# Altium schematic symbol library Acorn.SchLib: 5 symbols
Pins are listed as number, name and electrical type; pins without a type are passive.

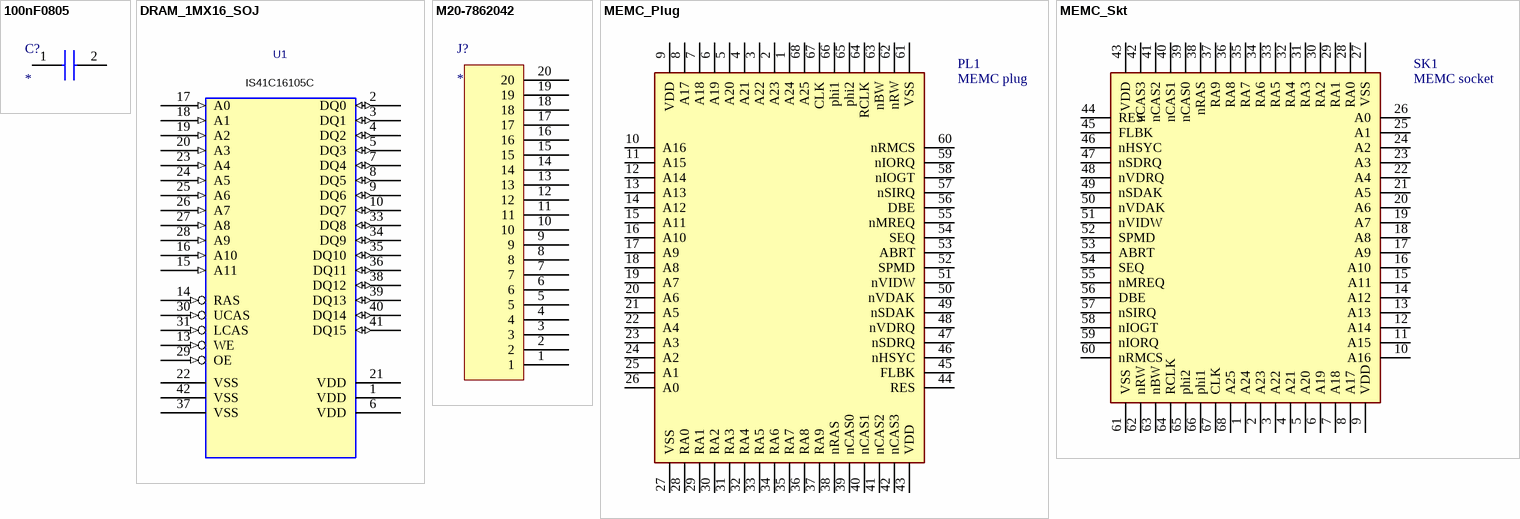
[diagram p0: symbols 100nF0805 to MEMC_Skt]

## 100nF0805
designator C?
Capacitor; Manufacturer_Name: TDK; Manufacturer_Part_Number: C2012X7R1H104K125AM; Datasheet Link: https://product.tdk.com/info/en/catalog/datasheets/mlcc_commercial_midvoltage_en.pdf; Height: 1.45mm; Mouser Part Number: 810-C2012X7R1H104KT5; Mouser Price/Stock: https://www.mouser.com/Search/Refine.aspx?Keyword=810-C2012X7R1H104KT5; Arrow Part Number: C2012X7R1H104K125AM; Arrow Price/Stock: https://www.arrow.com/en/products/c2012x7r1h104k125am/tdk; LCSC Part #: C111492
footprint 0805cap
pins: 1, 2

## DRAM_1MX16_SOJ
designator U1, comment IS41C16105C
Value: IS41C16105C
footprint SOJ-42
pins: 1 VCC (power) hidden, 1 VDD, 2 DQ0 (io), 3 DQ1 (io), 4 DQ2 (io), 5 DQ3 (io), 6 VCC (power) hidden, 6 VDD, 7 DQ4 (io), 8 DQ5 (io), 9 DQ6 (io), 10 DQ7 (io), 13 WE (in), 14 RAS (in), 15 A11 (in), 16 A10 (in), 17 A0 (in), 18 A1 (in), 19 A2 (in), 20 A3 (in), 21 VCC (power) hidden, 21 VDD, 22 VSS (power) hidden, 22 VSS, 23 A4 (in), 24 A5 (in), 25 A6 (in), 26 A7 (in), 27 A8 (in), 28 A9 (in), 29 OE (in), 30 UCAS (in), 31 LCAS (in), 33 DQ8 (io), 34 DQ9 (io), 35 DQ10 (io), 36 DQ11 (io), 37 VSS (power) hidden, 37 VSS, 38 DQ12 (io), 39 DQ13 (io), 40 DQ14 (io), 41 DQ15 (io), 42 VSS (power) hidden, 42 VSS

## M20-7862042
designator J?
Connector; Manufacturer_Name: Harwin; Manufacturer_Part_Number: M20-7862042; Datasheet Link: https://cdn.harwin.com/pdfs/M20-786.pdf; Height: 8mm; Mouser Part Number: 855-M20-7862042; Mouser Price/Stock: https://www.mouser.co.uk/ProductDetail/Harwin/M20-7862042?qs=l5IOXVh7iozhFLf%252B9355XQ%3D%3D
footprint M207862042
pins: 1, 2, 3, 4, 5, 6, 7, 8, 9, 10, 11, 12, 13, 14, 15, 16, 17, 18, 19, 20

## MEMC_Plug
designator PL1, comment MEMC plug
footprint MEMC_Plug
pins: 1 A24, 2 A23, 3 A22, 4 A21, 5 A20, 6 A19, 7 A18, 8 A17, 9 VDD, 10 A16, 11 A15, 12 A14, 13 A13, 14 A12, 15 A11, 16 A10, 17 A9, 18 A8, 19 A7, 20 A6, 21 A5, 22 A4, 23 A3, 24 A2, 25 A1, 26 A0, 27 VSS, 28 RA0, 29 RA1, 30 RA2, 31 RA3, 32 RA4, 33 RA5, 34 RA6, 35 RA7, 36 RA8, 37 RA9, 38 nRAS, 39 nCAS0, 40 nCAS1, 41 nCAS2, 42 nCAS3, 43 VDD, 44 RES, 45 FLBK, 46 nHSYC, 47 nSDRQ, 48 nVDRQ, 49 nSDAK, 50 nVDAK, 51 nVIDW, 52 SPMD, 53 ABRT, 54 SEQ, 55 nMREQ, 56 DBE, 57 nSIRQ, 58 nIOGT, 59 nIORQ, 60 nRMCS, 61 VSS, 62 nRW, 63 nBW, 64 RCLK, 65 phi2, 66 phi1, 67 CLK, 68 A25

## MEMC_Skt
designator SK1, comment MEMC socket
Manufacturer_Name: 3M; Manufacturer_Part_Number: 8468-21B1-RK-TR; Datasheet Link: https://www.arrow.com/en/products/8468-21b1-rk-tr/3m; Height: 4.6mm; Mouser Part Number: 517-8468-21B1-RK-TR; Mouser Price/Stock: https://www.mouser.co.uk/ProductDetail/3M-Electronic-Solutions-Division/8468-21B1-RK-TR?qs=X%2F%2F06fXhnJ18zOj3KK47CQ%3D%3D; Arrow Part Number: 8468-21B1-RK-TR; Arrow Price/Stock: https://www.arrow.com/en/products/8468-21b1-rk-tr/3m
footprint 846821B1RKTR
pins: 1 A24, 2 A23, 3 A22, 4 A21, 5 A20, 6 A19, 7 A18, 8 A17, 9 VDD, 10 A16, 11 A15, 12 A14, 13 A13, 14 A12, 15 A11, 16 A10, 17 A9, 18 A8, 19 A7, 20 A6, 21 A5, 22 A4, 23 A3, 24 A2, 25 A1, 26 A0, 27 VSS, 28 RA0, 29 RA1, 30 RA2, 31 RA3, 32 RA4, 33 RA5, 34 RA6, 35 RA7, 36 RA8, 37 RA9, 38 nRAS, 39 nCAS0, 40 nCAS1, 41 nCAS2, 42 nCAS3, 43 VDD, 44 RES, 45 FLBK, 46 nHSYC, 47 nSDRQ, 48 nVDRQ, 49 nSDAK, 50 nVDAK, 51 nVIDW, 52 SPMD, 53 ABRT, 54 SEQ, 55 nMREQ, 56 DBE, 57 nSIRQ, 58 nIOGT, 59 nIORQ, 60 nRMCS, 61 VSS, 62 nRW, 63 nBW, 64 RCLK, 65 phi2, 66 phi1, 67 CLK, 68 A25